# Altium footprint library blecontrollerPCB1_master.PcbLib: 180 footprints (part 6 of 12)
Each footprint in its own frame and in the unit in brackets; x right, y up, seen from the top. Pads: shape width x height; smd on the part's side, far side on the other; paste and mask are expansions set on the pad; w line width, h text height; cw(c..) or ccw(c..) is an arc to the next point about the centre after c.
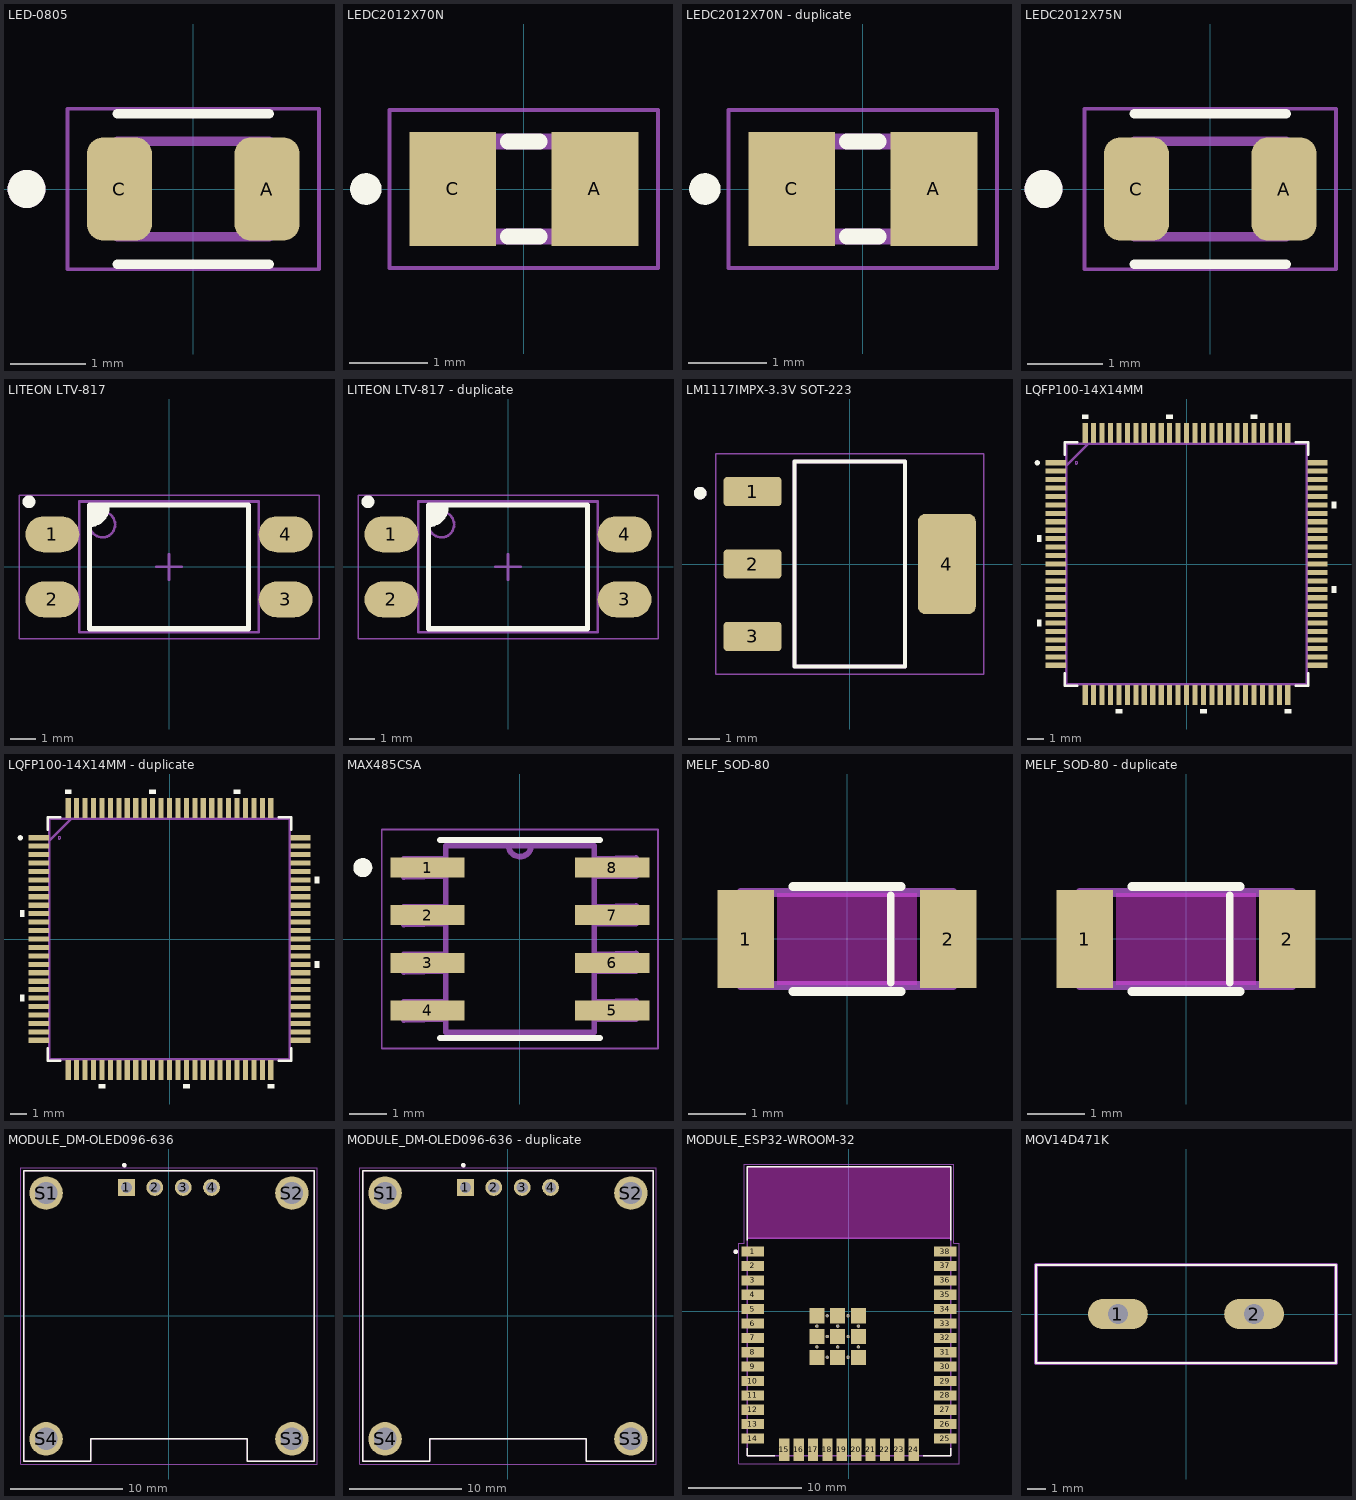
[diagram p5: the footprints below, top view; thin cyan lines are the x and y axes]

## LED-0805 [mm] "Red 640nm LED Indication - Discrete 1.85V 0805 (2012 Metric) SMT APT2012SRCPRV"
pads (2):
  rrect50% 0.86x1.36 smd: A(0.975,0) C(-0.975,0)
Top Overlay:
  circle w0.3: c-2.2,0 r0.1
  lines w0.127: -1,-0.995 1,-0.995 ; -1,0.995 1,0.995
Mechanical 13:
  circle w0.3: c-2.2,0 r0.1
  lines w0.127: -1,-0.63 -1,0.63 1,0.63 1,-0.63 -1,-0.63
Mechanical 15:
  lines w0.05: -1.66,-1.059 -1.66,1.059 1.66,1.059 1.66,-1.059 -1.66,-1.059
3D body "step_temp.STEP": height 0.75, standoff 0, extent -1,-0.625 1,0.625

## LEDC2012X70N [mm]
pads (2):
  rect 1.1x1.45 smd: A(0.9,0) C(-0.9,0)
Top Overlay:
  circle w0.2: c-2,0 r0.1
  lines w0.2: -0.2,-0.6 0.2,-0.6 ; -0.2,0.6 0.2,0.6
Mechanical 13:
  region: 1,-0.6 0.5,-0.6 0.5,0.6 1,0.6
  region: -0.5,-0.6 -1,-0.6 -1,0.6 -0.5,0.6
  lines w0.2: -1,-0.6 -1,0.6 1,0.6 1,-0.6 -1,-0.6
Mechanical 15:
  lines w0.05: -1.7,-1 -1.7,1 1.7,1 1.7,-1 -1.7,-1
3D body "step_temp.STEP": height 0.7, standoff 0, extent -1,-0.625 1,0.625

## LEDC2012X70N - duplicate [mm]
pads (2):
  rect 1.1x1.45 smd: A(0.9,0) C(-0.9,0)
Top Overlay:
  circle w0.2: c-2,0 r0.1
  lines w0.2: -0.2,-0.6 0.2,-0.6 ; -0.2,0.6 0.2,0.6
Mechanical 13:
  region: 1,-0.6 0.5,-0.6 0.5,0.6 1,0.6
  region: -0.5,-0.6 -1,-0.6 -1,0.6 -0.5,0.6
  lines w0.2: -1,-0.6 -1,0.6 1,0.6 1,-0.6 -1,-0.6
Mechanical 15:
  lines w0.05: -1.7,-1 -1.7,1 1.7,1 1.7,-1 -1.7,-1
3D body "step_temp.STEP": height 0.7, standoff 0, extent -1,-0.625 1,0.625

## LEDC2012X75N [mm]
pads (2):
  rrect50% 0.86x1.36 smd: A(0.975,0) C(-0.975,0)
Top Overlay:
  circle w0.3: c-2.2,0 r0.1
  lines w0.127: -1,-0.995 1,-0.995 ; -1,0.995 1,0.995
Mechanical 13:
  circle w0.3: c-2.2,0 r0.1
  lines w0.127: -1,-0.63 -1,0.63 1,0.63 1,-0.63 -1,-0.63
Mechanical 15:
  lines w0.05: -1.66,-1.059 -1.66,1.059 1.66,1.059 1.66,-1.059 -1.66,-1.059
3D body "step_temp.STEP": height 0.75, standoff 0, extent -1,-0.625 1,0.625

## LITEON LTV-817 [mm]
pads (4):
  oval 2.1x1.4 smd: 1(-4.55,1.27) 2(-4.55,-1.27) 3(4.55,-1.27) 4(4.55,1.27)
Top Overlay:
  circle w0.25: c-5.461,2.54 r0.125
  region: -3.1,2.413 -2.413,2.413 -2.413,2.032 -2.794,1.651 -3.1,1.651
  lines w0.2: -3.1,1.651 ccw(c-3.1,2.338) -2.413,2.338 ; -3.1,-2.413 -3.1,2.413 3.1,2.413 3.1,-2.413 -3.1,-2.413
Mechanical 13:
  circle w0.1: c-2.6,1.65 r0.5
  lines w0.1: -3.5,-2.55 -3.5,2.55 3.5,2.55 3.5,-2.55 -3.5,-2.55
Mechanical 15:
  lines w0.05: -5.85,-2.8 -5.85,2.8 5.85,2.8 5.85,-2.8 -5.85,-2.8
  lines w0.1: -0.5,0 0.5,0 ; 0,-0.5 0,0.5
3D body "LTV-817S.STEP": height 3.85, standoff 0, extent -5.098,-2.3 5.098,2.3

## LITEON LTV-817 - duplicate [mm]
pads (4):
  oval 2.1x1.4 smd: 1(-4.55,1.27) 2(-4.55,-1.27) 3(4.55,-1.27) 4(4.55,1.27)
Top Overlay:
  circle w0.25: c-5.461,2.54 r0.125
  region: -3.1,2.413 -2.413,2.413 -2.413,2.032 -2.794,1.651 -3.1,1.651
  lines w0.2: -3.1,1.651 ccw(c-3.1,2.338) -2.413,2.338 ; -3.1,-2.413 -3.1,2.413 3.1,2.413 3.1,-2.413 -3.1,-2.413
Mechanical 13:
  circle w0.1: c-2.6,1.65 r0.5
  lines w0.1: -3.5,-2.55 -3.5,2.55 3.5,2.55 3.5,-2.55 -3.5,-2.55
Mechanical 15:
  lines w0.05: -5.85,-2.8 -5.85,2.8 5.85,2.8 5.85,-2.8 -5.85,-2.8
  lines w0.1: -0.5,0 0.5,0 ; 0,-0.5 0,0.5
3D body "LTV-817S.STEP": height 3.85, standoff 0, extent -5.098,-2.3 5.098,2.3

## LM1117IMPX-3.3V SOT-223 [mm] "LM1117IMPX-3.3V 800-mA 15-V linear voltage regulator SOT230P700X180-4N"
height 1.8
pads (4):
  rrect25% 1.84x0.93 smd: 1(-3.085,2.3) 2(-3.085,0) 3(-3.085,-2.3)
  rrect25% 1.84x3.19 smd: 4(3.085,0)
Top Overlay:
  circle w0.2: c-4.75,2.25 r0.1
  lines w0.127: -1.75,-3.25 -1.75,3.25 1.75,3.25 1.75,-3.25 -1.75,-3.25
Mechanical 13:
  circle w0.2: c-4.75,2.25 r0.1
  lines w0.127: -1.75,-3.25 -1.75,3.25 1.75,3.25 1.75,-3.25 -1.75,-3.25
Mechanical 15:
  lines w0.05: -4.255,-3.5 4.255,-3.5 4.255,3.5 -4.255,3.5 -4.255,-3.5
3D body "step_temp.STEP": height 1.8, standoff 0, extent -3.499,-3.25 3.499,3.25

## LQFP100-14X14MM [mil]
pads (100):
  rect 47x12 smd: 1(-305.12,236.22) 2(-305.12,216.53) 3(-305.12,196.85) 4(-305.12,177.17) 5(-305.12,157.48) 6(-305.12,137.8) 7(-305.12,118.11) 8(-305.12,98.42) 9(-305.12,78.74) 10(-305.12,59.06) 11(-305.12,39.37) 12(-305.12,19.68) 13(-305.12,0) 14(-305.12,-19.68) 15(-305.12,-39.37) 16(-305.12,-59.06) 17(-305.12,-78.74) 18(-305.12,-98.42) 19(-305.12,-118.11) 20(-305.12,-137.8) 21(-305.12,-157.48) 22(-305.12,-177.17) 23(-305.12,-196.85) 24(-305.12,-216.53) 25(-305.12,-236.22) 51(305.12,-236.22) 52(305.12,-216.53) 53(305.12,-196.85) 54(305.12,-177.17) 55(305.12,-157.48) 56(305.12,-137.8) 57(305.12,-118.11) 58(305.12,-98.42) 59(305.12,-78.74) 60(305.12,-59.06) 61(305.12,-39.37) 62(305.12,-19.68) 63(305.12,0) 64(305.12,19.68) 65(305.12,39.37) 66(305.12,59.06) 67(305.12,78.74) 68(305.12,98.42) 69(305.12,118.11) 70(305.12,137.8) 71(305.12,157.48) 72(305.12,177.17) 73(305.12,196.85) 74(305.12,216.53) 75(305.12,236.22)
  rect 12x47 smd: 26(-236.22,-305.12) 27(-216.53,-305.12) 28(-196.85,-305.12) 29(-177.17,-305.12) 30(-157.48,-305.12) 31(-137.8,-305.12) 32(-118.11,-305.12) 33(-98.42,-305.12) 34(-78.74,-305.12) 35(-59.06,-305.12) 36(-39.37,-305.12) 37(-19.68,-305.12) 38(0,-305.12) 39(19.68,-305.12) 40(39.37,-305.12) 41(59.06,-305.12) 42(78.74,-305.12) 43(98.42,-305.12) 44(118.11,-305.12) 45(137.8,-305.12) 46(157.48,-305.12) 47(177.17,-305.12) 48(196.85,-305.12) 49(216.53,-305.12) 50(236.22,-305.12) 76(236.22,305.12) 77(216.53,305.12) 78(196.85,305.12) 79(177.17,305.12) 80(157.48,305.12) 81(137.8,305.12) 82(118.11,305.12) 83(98.42,305.12) 84(78.74,305.12) 85(59.06,305.12) 86(39.37,305.12) 87(19.68,305.12) 88(0,305.12) 89(-19.68,305.12) 90(-39.37,305.12) 91(-59.06,305.12) 92(-78.74,305.12) 93(-98.42,305.12) 94(-118.11,305.12) 95(-137.8,305.12) 96(-157.48,305.12) 97(-177.17,305.12) 98(-196.85,305.12) 99(-216.53,305.12) 100(-236.22,305.12)
Top Overlay:
  region: -228.72,338.62 -243.72,338.62 -243.72,348.62 -228.72,348.62
  region: -31.87,338.62 -46.87,338.62 -46.87,348.62 -31.87,348.62
  region: 164.98,338.62 149.98,338.62 149.98,348.62 164.98,348.62
  region: 348.62,130.3 338.62,130.3 338.62,145.3 348.62,145.3
  region: 348.62,-66.56 338.62,-66.56 338.62,-51.56 348.62,-51.56
  region: 243.72,-348.62 228.72,-348.62 228.72,-338.62 243.72,-338.62
  region: 46.87,-348.62 31.87,-348.62 31.87,-338.62 46.87,-338.62
  region: -149.98,-348.62 -164.98,-348.62 -164.98,-338.62 -149.98,-338.62
  region: -338.62,-145.3 -348.62,-145.3 -348.62,-130.3 -338.62,-130.3
  region: -338.62,51.56 -348.62,51.56 -348.62,66.56 -338.62,66.56
  lines w6: -284,-255 -284,-284 -255,-284 ; -284,255 -284,284 -255,284 ; 255,-284 284,-284 284,-255 ; 255,284 284,284 284,255 ; -351,236 cw(c-348,236) -345,236 cw(c-348,236) -351,236
Mechanical 13:
  lines w0: -260,236 cw(c-257,236) -254,236 cw(c-257,236) -260,236
  lines w6: -280,230 -230,280 ; -280,-280 -280,280 280,280 280,-280 -280,-280
3D body "step_temp.STEP": height 62.99, standoff 0, extent -314.96,-314.96 314.96,314.96

## LQFP100-14X14MM - duplicate [mil]
pads (100):
  rect 47x12 smd: 1(-305.12,236.22) 2(-305.12,216.53) 3(-305.12,196.85) 4(-305.12,177.17) 5(-305.12,157.48) 6(-305.12,137.8) 7(-305.12,118.11) 8(-305.12,98.42) 9(-305.12,78.74) 10(-305.12,59.06) 11(-305.12,39.37) 12(-305.12,19.68) 13(-305.12,0) 14(-305.12,-19.68) 15(-305.12,-39.37) 16(-305.12,-59.06) 17(-305.12,-78.74) 18(-305.12,-98.42) 19(-305.12,-118.11) 20(-305.12,-137.8) 21(-305.12,-157.48) 22(-305.12,-177.17) 23(-305.12,-196.85) 24(-305.12,-216.53) 25(-305.12,-236.22) 51(305.12,-236.22) 52(305.12,-216.53) 53(305.12,-196.85) 54(305.12,-177.17) 55(305.12,-157.48) 56(305.12,-137.8) 57(305.12,-118.11) 58(305.12,-98.42) 59(305.12,-78.74) 60(305.12,-59.06) 61(305.12,-39.37) 62(305.12,-19.68) 63(305.12,0) 64(305.12,19.68) 65(305.12,39.37) 66(305.12,59.06) 67(305.12,78.74) 68(305.12,98.42) 69(305.12,118.11) 70(305.12,137.8) 71(305.12,157.48) 72(305.12,177.17) 73(305.12,196.85) 74(305.12,216.53) 75(305.12,236.22)
  rect 12x47 smd: 26(-236.22,-305.12) 27(-216.53,-305.12) 28(-196.85,-305.12) 29(-177.17,-305.12) 30(-157.48,-305.12) 31(-137.8,-305.12) 32(-118.11,-305.12) 33(-98.42,-305.12) 34(-78.74,-305.12) 35(-59.06,-305.12) 36(-39.37,-305.12) 37(-19.68,-305.12) 38(0,-305.12) 39(19.68,-305.12) 40(39.37,-305.12) 41(59.06,-305.12) 42(78.74,-305.12) 43(98.42,-305.12) 44(118.11,-305.12) 45(137.8,-305.12) 46(157.48,-305.12) 47(177.17,-305.12) 48(196.85,-305.12) 49(216.53,-305.12) 50(236.22,-305.12) 76(236.22,305.12) 77(216.53,305.12) 78(196.85,305.12) 79(177.17,305.12) 80(157.48,305.12) 81(137.8,305.12) 82(118.11,305.12) 83(98.42,305.12) 84(78.74,305.12) 85(59.06,305.12) 86(39.37,305.12) 87(19.68,305.12) 88(0,305.12) 89(-19.68,305.12) 90(-39.37,305.12) 91(-59.06,305.12) 92(-78.74,305.12) 93(-98.42,305.12) 94(-118.11,305.12) 95(-137.8,305.12) 96(-157.48,305.12) 97(-177.17,305.12) 98(-196.85,305.12) 99(-216.53,305.12) 100(-236.22,305.12)
Top Overlay:
  region: -228.72,338.62 -243.72,338.62 -243.72,348.62 -228.72,348.62
  region: -31.87,338.62 -46.87,338.62 -46.87,348.62 -31.87,348.62
  region: 164.98,338.62 149.98,338.62 149.98,348.62 164.98,348.62
  region: 348.62,130.3 338.62,130.3 338.62,145.3 348.62,145.3
  region: 348.62,-66.56 338.62,-66.56 338.62,-51.56 348.62,-51.56
  region: 243.72,-348.62 228.72,-348.62 228.72,-338.62 243.72,-338.62
  region: 46.87,-348.62 31.87,-348.62 31.87,-338.62 46.87,-338.62
  region: -149.98,-348.62 -164.98,-348.62 -164.98,-338.62 -149.98,-338.62
  region: -338.62,-145.3 -348.62,-145.3 -348.62,-130.3 -338.62,-130.3
  region: -338.62,51.56 -348.62,51.56 -348.62,66.56 -338.62,66.56
  lines w6: -284,-255 -284,-284 -255,-284 ; -284,255 -284,284 -255,284 ; 255,-284 284,-284 284,-255 ; 255,284 284,284 284,255 ; -351,236 cw(c-348,236) -345,236 cw(c-348,236) -351,236
Mechanical 13:
  lines w0: -260,236 cw(c-257,236) -254,236 cw(c-257,236) -260,236
  lines w6: -280,230 -230,280 ; -280,-280 -280,280 280,280 280,-280 -280,-280
3D body "step_temp.STEP": height 62.99, standoff 0, extent -314.96,-314.96 314.96,314.96

## MAX485CSA [mil] "MAX485CSA-RS-485/RS-422 Transceivers, SOIC-8"
pads (8):
  rect 78x21 smd: 1(-97,75) 2(-97,25) 3(-97,-25) 4(-97,-75) 5(97,-75) 6(97,-25) 7(97,25) 8(97,75)
Top Overlay:
  circle w10: c-165,75 r5
  lines w6: -84,-104 84,-104 ; -84,104 84,104
Mechanical 13:
  lines w6: -12,98.08 ccw(c0,98.5) 12,98.92 ; -122,-85 -122,-66 -78,-66 -78,-84 -122,-85 ; -122,-35 -122,-16 -78,-16 -78,-34 -122,-35 ; -122,15 -122,34 -78,34 -78,16 -122,15 ; -122,65 -122,84 -78,84 -78,66 -122,65 ; -78,-98 78,-98 78,98 -12,98 -78,98 -78,-98 ; 78,-84 78,-66 122,-65 122,-84 78,-84 ; 78,-34 78,-16 122,-15 122,-34 78,-34 ; 78,16 78,34 122,35 122,16 78,16 ; 78,66 78,84 122,85 122,66 78,66
Mechanical 15:
  lines w1.97: -145,-115 -145,115 145,115 145,-115 -145,-115
3D body "step_temp.STEP": height 68.9, standoff 0, extent -118.11,-96.46 118.11,96.46

## MELF_SOD-80 [mil]
pads (2):
  rect 39x67 smd: 1(-69.5,0) 2(69.5,0)
Top Overlay:
  lines w5: 30,-30 30,30
  lines w6: -37,-36 37,-36 ; -37,36 37,36
Keep-Out Layer:
  region: 48,-31.5 -48,-31.5 -48,31.5 48,31.5
Mechanical 13:
  lines w6: -73,-32 -73,32 73,32 73,-32 -73,-32
3D body "step_temp.STEP": height 62.99, standoff 0, extent -68.9,-31.02 68.9,31.02

## MELF_SOD-80 - duplicate [mil]
pads (2):
  rect 39x67 smd: 1(-69.5,0) 2(69.5,0)
Top Overlay:
  lines w5: 30,-30 30,30
  lines w6: -37,-36 37,-36 ; -37,36 37,36
Keep-Out Layer:
  region: 48,-31.5 -48,-31.5 -48,31.5 48,31.5
Mechanical 13:
  lines w6: -73,-32 -73,32 73,32 73,-32 -73,-32
3D body "step_temp.STEP": height 62.99, standoff 0, extent -68.9,-31.02 68.9,31.02

## MODULE_DM-OLED096-636 [mm]
pads (8):
  rect 1.508x1.508 / inner round 1.508 / far side rect 1.508x1.508 hole 1: 1(-3.81,11.5)
  round 1.508 hole 1: 2(-1.27,11.5) 3(1.27,11.5) 4(3.81,11.5)
  round 3 hole 2: S1(-11,11) S2(11,11) S3(11,-11) S4(-11,-11)
Top Overlay:
  circle w0.2: c-4,13.5 r0.1
  lines w0.127: -13,-13 -7,-13 -7,-11 7,-11 7,-13 13,-13 13,13 -13,13 -13,-13
Mechanical 13:
  circle w0.2: c-4,13.5 r0.1
  lines w0.127: -13,-13 -7,-13 -7,-11 7,-11 7,-13 13,-13 13,13 -13,13 -13,-13
Mechanical 15:
  lines w0.05: -13.25,-13.25 13.25,-13.25 13.25,13.25 -13.25,13.25 -13.25,-13.25
3D body "step_temp.STEP": height 5.66, standoff -5.64, extent -13,-13 13,13

## MODULE_DM-OLED096-636 - duplicate [mm]
pads (8):
  rect 1.508x1.508 / inner round 1.508 / far side rect 1.508x1.508 hole 1: 1(-3.81,11.5)
  round 1.508 hole 1: 2(-1.27,11.5) 3(1.27,11.5) 4(3.81,11.5)
  round 3 hole 2: S1(-11,11) S2(11,11) S3(11,-11) S4(-11,-11)
Top Overlay:
  circle w0.2: c-4,13.5 r0.1
  lines w0.127: -13,-13 -7,-13 -7,-11 7,-11 7,-13 13,-13 13,13 -13,13 -13,-13
Mechanical 13:
  circle w0.2: c-4,13.5 r0.1
  lines w0.127: -13,-13 -7,-13 -7,-11 7,-11 7,-13 13,-13 13,13 -13,13 -13,-13
Mechanical 15:
  lines w0.05: -13.25,-13.25 13.25,-13.25 13.25,13.25 -13.25,13.25 -13.25,-13.25
3D body "step_temp.STEP": height 5.66, standoff -5.64, extent -13,-13 13,13

## MODULE_ESP32-WROOM-32 [mm]
height 3.2
pads (59):
  rect 2x0.9 smd: 1(-8.5,5.26) 2(-8.5,3.99) 3(-8.5,2.72) 4(-8.5,1.45) 5(-8.5,0.18) 6(-8.5,-1.09) 7(-8.5,-2.36) 8(-8.5,-3.63) 9(-8.5,-4.9) 10(-8.5,-6.17) 11(-8.5,-7.44) 12(-8.5,-8.71) 13(-8.5,-9.98) 14(-8.5,-11.25) 25(8.5,-11.25) 26(8.5,-9.98) 27(8.5,-8.71) 28(8.5,-7.44) 29(8.5,-6.17) 30(8.5,-4.9) 31(8.5,-3.63) 32(8.5,-2.36) 33(8.5,-1.09) 34(8.5,0.18) 35(8.5,1.45) 36(8.5,2.72) 37(8.5,3.99) 38(8.5,5.26)
  rect 0.9x2 smd: 15(-5.715,-12.25) 16(-4.445,-12.25) 17(-3.175,-12.25) 18(-1.905,-12.25) 19(-0.635,-12.25) 20(0.635,-12.25) 21(1.905,-12.25) 22(3.175,-12.25) 23(4.445,-12.25) 24(5.715,-12.25)
  rect 1.33x1.33 smd: 39_1(-2.835,-0.405) 39_2(-1,-0.405) 39_3(0.835,-0.405) 39_4(-2.835,-2.24) 39_5(-1,-2.24) 39_6(0.835,-2.24) 39_7(-2.835,-4.075) 39_8(-1,-4.075) 39_9(0.835,-4.075)
  round 0.3 hole 0.2: 39_10(-1.917,-0.405) 39_11(-0.082,-0.405) 39_12(-2.835,-1.322) 39_13(-1,-1.322) 39_14(0.835,-1.322) 39_15(-1.917,-2.24) 39_16(-0.082,-2.24) 39_17(-2.835,-3.157) 39_18(-1,-3.157) 39_19(0.835,-3.157) 39_20(-1.917,-4.075) 39_21(-0.082,-4.075)
Top Overlay:
  circle w0.2: c-10,5.25 r0.1
  lines w0.127: -9,-12.1 -9,-12.75 -6.55,-12.75 ; -9,6.25 -9,12.75 9,12.75 9,6.25 ; 6.55,-12.75 9,-12.75 9,-12.1
Keep-Out Layer:
  region: 9,6.45 -9,6.45 -9,12.75 9,12.75
  region: 9,6.45 -9,6.45 -9,12.75 9,12.75
Mechanical 13:
  circle w0.2: c-10,5.25 r0.1
  lines w0.127: -9,6.45 9,6.45 ; -9,6.45 -9,12.75 9,12.75 9,6.45 ; -9,6.45 -9,-12.75 9,-12.75 9,6.45
  text "ANTENNA" at -6,9 h1.78
Mechanical 15:
  lines w0.05: -9.75,-13.5 -9.75,6 -9.25,6 -9.25,13 9.25,13 9.25,6 9.75,6 9.75,-13.5 -9.75,-13.5
3D body "step_temp.STEP": height 3.2, standoff 0, extent -9,-12.75 9,12.75

## MOV14D471K [mm]
pads (2):
  oval 3.3x1.65 hole 1.1: 1(-3.75,0) 2(3.75,0)
Top Overlay:
  lines w0.1: -8.25,-2.7 -8.25,2.7 8.25,2.7 8.25,-2.7 -8.25,-2.7
Mechanical 13:
  lines w0.2: -8.25,-2.7 -8.25,2.7 8.25,2.7 8.25,-2.7 -8.25,-2.7
3D body "step_temp.STEP": height 20, standoff -20, extent -8.25,-2.2 8.25,2.2